# EAGLE library part IRF7319 (library Eagle-Lib)
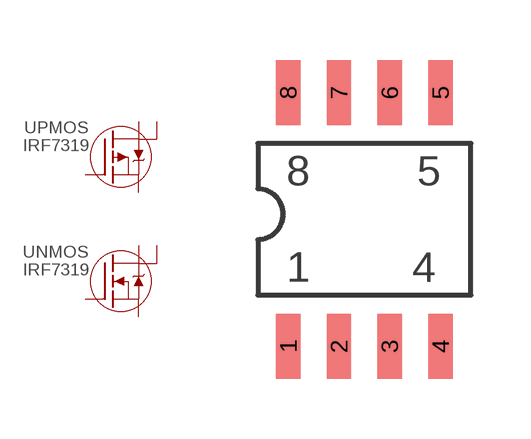
[diagram p6: symbol with the pads of SO8; footprint SO8]

Designator prefix -; gates PMOS=PMOS NMOS=NMOS

## IRF7319  [SO8]
1  NMOS:S
2  NMOS:G
3  PMOS:S
4  PMOS:G
5  PMOS:D
6  PMOS:D
7  NMOS:D
8  NMOS:D

## Footprint SO8 (pad centres in mm)
smd 0.61 x 1.626: 1 -1.27,-3.81; 2 0,-3.81; 3 1.27,-3.81; 4 2.54,-3.81; 5 2.54,2.54; 6 1.27,2.54; 7 0,2.54; 8 -1.27,2.54